# Altium schematic symbol library LightPipeRA1.SchLib: 1 symbol
Pins are listed as number, name and electrical type; pins without a type are passive.

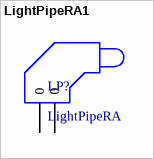
[diagram p0: symbol LightPipeRA1]

## LightPipeRA1
designator LP?, comment LightPipeRA
pins: 0, 0